# Altium schematic symbol library MB0009A.01.A.1.SchLib: 1 symbol
Pins are listed as number, name and electrical type; pins without a type are passive.

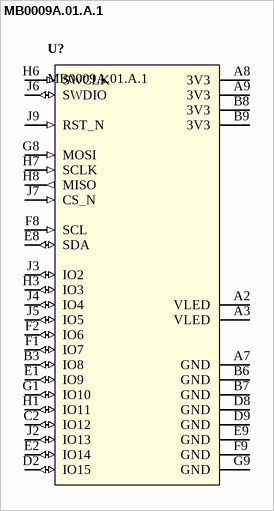
[diagram p0: symbol MB0009A.01.A.1]

## MB0009A.01.A.1
designator U?
pins: A2 VLED (power), A3 VLED (power), A7 GND (power), A8 3V3 (power), A9 3V3 (power), B3 IO8 (io), B6 GND (power), B7 GND (power), B8 3V3 (power), B9 3V3 (power), C2 IO12 (io), D2 IO15 (io), D8 GND (power), D9 GND (power), E1 IO9 (io), E2 IO14 (io), E8 SDA (io), E9 GND (power), F1 IO7 (io), F2 IO6 (io), F8 SCL (in), F9 GND (power), G1 IO10 (io), G8 MOSI (in), G9 GND (power), H1 IO11 (io), H3 IO3 (io), H6 SWCLK (in), H7 SCLK (in), H8 MISO (out), J2 IO13 (io), J3 IO2 (io), J4 IO4 (io), J5 IO5 (io), J6 SWDIO (io), J7 CS_N (in), J9 RST_N (in)